# Altium schematic symbol library SN74HC595.SchLib: 1 symbol
Pins are listed as number, name and electrical type; pins without a type are passive.

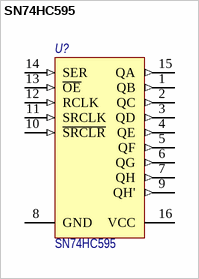
[diagram p0: symbol SN74HC595]

## SN74HC595
designator U?
8-Bit Shift Registers With 3-State Output Registers; Потребление: 0.001; Назначение: 8-Bit Shift Registers With 3-State Output Registers; Наименование: SN74HC595
footprint TSSOP-16N (TSSOP, 16-Leads, Body 5,00x4,40mm, Pitch 0,65mm, IPC Medium Density)
pins: 1 QB (out), 2 QC (out), 3 QD (out), 4 QE (out), 5 QF (out), 6 QG (out), 7 QH (out), 8 GND (power), 9 QH' (out), 10 ~{SRCLR} (in), 11 SRCLK (in), 12 RCLK (in), 13 ~{OE} (in), 14 SER (in), 15 QA (out), 16 VCC (power)